# Altium schematic symbol library USB connectors.SchLib: 7 symbols
Pins are listed as number, name and electrical type; pins without a type are passive.

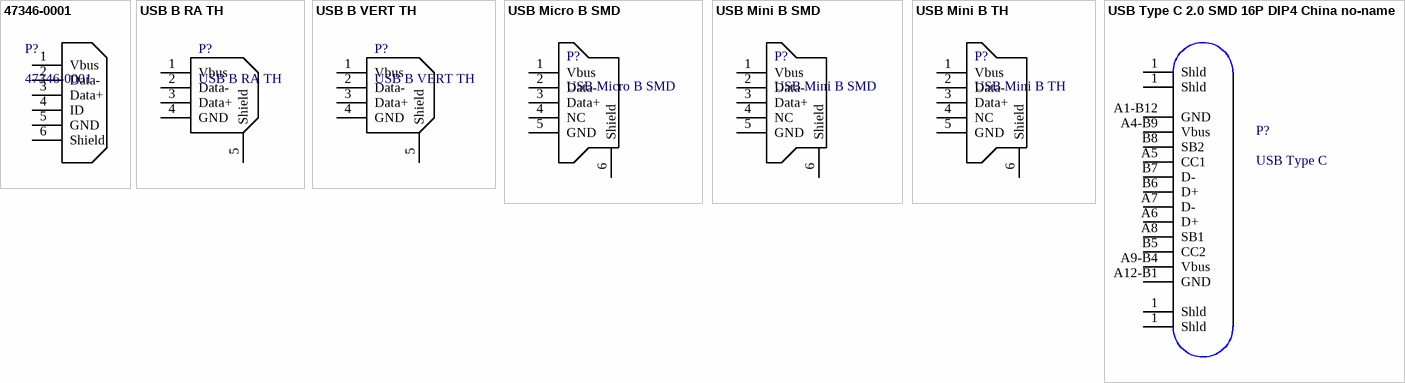
[diagram p0: symbols 47346-0001 to USB Type C 2.0 SMD 16P DIP4 China no-name]

## 47346-0001
designator P?
USB Micro B Surface Mount
footprint 47346-0001 (USB MICRO B RA SMD MOLEX)
pins: 1 Vbus, 2 Data-, 3 Data+, 4 ID, 5 GND, 6 Shield

## USB B RA TH
designator P?
USB B Right Angle Trough Hole
footprint USB B TH R/A DEVICE (USB Type B Device Socket TH)
footprint USB B TH PART_RA FOOT_RA&VERT
pins: 1 Vbus, 2 Data-, 3 Data+, 4 GND, 5 Shield

## USB B VERT TH
designator P?
USB B Vertical Trough Hole
footprint USB B TH VERT DEVICE (USB Type B Device Vertical Socket TH)
footprint USB B TH PART_VERT FOOT_RA&VERT (Vertical part, footrpint is for right angled and vertical parts.)
pins: 1 Vbus, 2 Data-, 3 Data+, 4 GND, 5 Shield

## USB Micro B SMD
designator P?
USB Micro B Surface Mount
footprint USB MICRO B SMD 2 GUIDES
pins: 1 Vbus, 2 Data-, 3 Data+, 4 NC, 5 GND, 6 Shield

## USB Mini B SMD
designator P?
USB Mini B Surface Mount; Supplier 1: Digi-Key; Supplier 2: Digi-Key; Supplier 3: Digi-Key; Supplier 4: Digi-Key; Supplier 5: Digi-Key; Supplier 6: Digi-Key; Supplier 7: Digi-Key; Supplier 8: Digi-Key; Supplier 9: Digi-Key; Supplier 10: Digi-Key; Supplier 11: Digi-Key; Supplier 12: Digi-Key; Supplier 13: Digi-Key; Supplier 14: Digi-Key; Supplier Part Number 1: 609-4700-1-ND; Supplier Part Number 2: 609-4701-6-ND; Supplier Part Number 3: 151-1206-6-ND; Supplier Part Number 4: ED2992CT-ND; Supplier Part Number 5: 609-4700-6-ND; Supplier Part Number 6: 609-4701-1-ND; Supplier Part Number 7: 151-1206-1-ND; Supplier Part Number 8: H2959DKR-ND; Supplier Part Number 9: WM5461CT-ND; Supplier Part Number 10: ED2992DKR-ND; Supplier Part Number 11: H2961CT-ND; Supplier Part Number 12: H2961DKR-ND; Supplier Part Number 13: WM5461DKR-ND; Supplier Part Number 14: H2959CT-ND
footprint USB MINI B SMD (USB Mini B Surface Mount)
pins: 1 Vbus, 2 Data-, 3 Data+, 4 NC, 5 GND, 6 Shield

## USB Mini B TH
designator P?
USB Mini B Trough Hole
footprint USB Mini B TH (USB Mini B Trough Hole)
pins: 1 Vbus, 2 Data-, 3 Data+, 4 NC, 5 GND, 6 Shield

## USB Type C 2.0 SMD 16P DIP4 China no-name
designator P?, comment USB Type C
Chinese no-name
footprint USB Type C 2.0 SMD 16P DIP4 China no-name (USB Type C 2.0 SMD 16P DIP4)
pins: 1 Shld, 1 Shld, 1 Shld, 1 Shld, A1-B12 GND, A4-B9 Vbus, A5 CC1, A6 D+, A7 D-, A8 SB1, A9-B4 Vbus, A12-B1 GND, B5 CC2, B6 D+, B7 D-, B8 SB2